# EAGLE library part A2200-A (library vulcan-1)
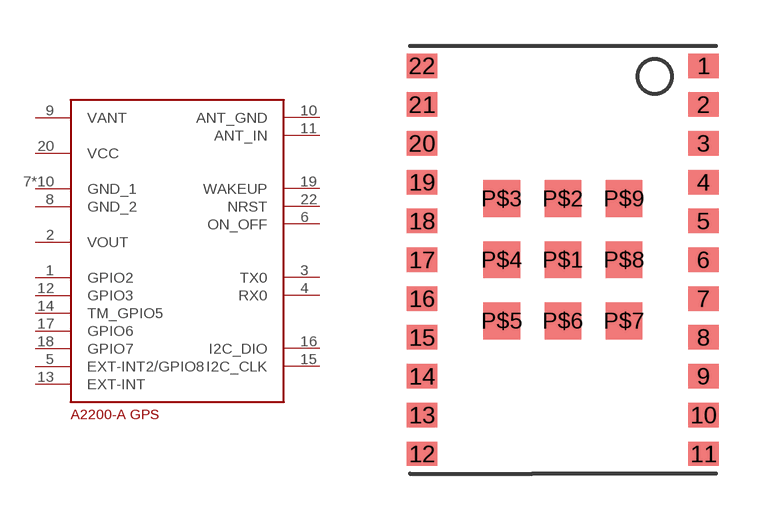
[diagram p1: symbol with the pads of GPS-MODULE; footprint GPS-MODULE]

Designator prefix -

## A2200-A  [GPS-MODULE]
1  GPIO2
2  VOUT
3  TX0
4  RX0
5  EXT-INT2/GPIO8
6  ON_OFF
7  GND_1
8  GND_2
9  VANT
10  ANT_GND
11  ANT_IN
12  GPIO3
13  EXT-INT
14  TM_GPIO5
15  I2C_CLK
16  I2C_DIO
17  GPIO6
18  GPIO7
19  WAKEUP
20  VCC
22  NRST
P$1  GND_1
P$2  GND_1
P$3  GND_1
P$4  GND_1
P$5  GND_1
P$6  GND_1
P$7  GND_1
P$8  GND_1
P$9  GND_1

## Footprint GPS-MODULE (pad centres in mm)
smd 1 x 0.8: 1 4.6,6.35; 2 4.6,5.08; 3 4.6,3.81; 4 4.6,2.54; 5 4.6,1.27; 6 4.6,0; 7 4.6,-1.27; 8 4.6,-2.54; 9 4.6,-3.81; 10 4.6,-5.08; 11 4.6,-6.35; 12 -4.6,-6.35; 13 -4.6,-5.08; 14 -4.6,-3.81; 15 -4.6,-2.54; 16 -4.6,-1.27; 17 -4.6,0; 18 -4.6,1.27; 19 -4.6,2.54; 20 -4.6,3.81; 21 -4.6,5.08; 22 -4.6,6.35
smd 1.2 x 1.2: P$1 0,0; P$2 0,2; P$3 -2,2; P$4 -2,0; P$5 -2,-2; P$6 0,-2; P$7 2,-2; P$8 2,0; P$9 2,2